# EAGLE library part LT1054 (library ruark2)
Charge Pump Switching Regulator IC Positive or Negative Adjustable (Fixed) 3.5V (-Vin, 2Vin) 1 Output 100mA 16-SOIC (0.295", 7.50mm Width)
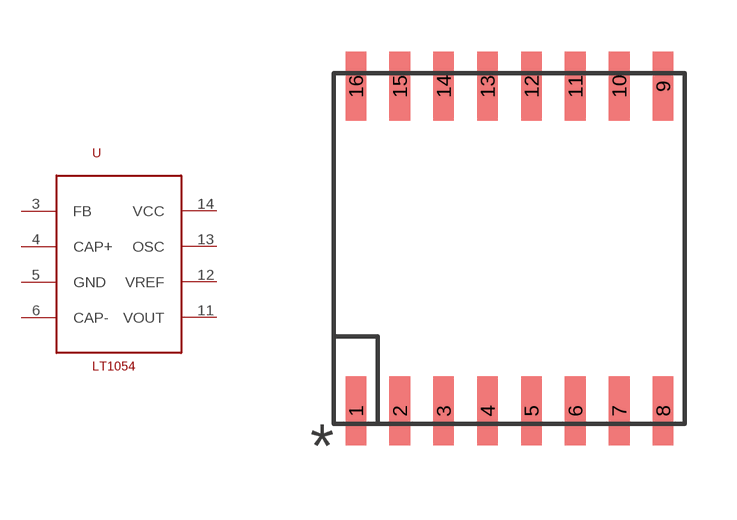
[diagram p10: symbol with the pads of SOP16; footprint SOP16]

Designator prefix U

## LT1054 (PARTNO: 296-17595-1-ND)  [SOP16]
3  FB
4  CAP+
5  GND
6  CAP-
11  VOUT
12  VREF
13  OSC
14  VCC

## Footprint SOP16 (pad centres in mm)
smd 0.6 x 2: 1 -4.445,-4.7; 2 -3.175,-4.7; 3 -1.905,-4.7; 4 -0.635,-4.7; 5 0.635,-4.7; 6 1.905,-4.7; 7 3.175,-4.7; 8 4.445,-4.7; 9 4.445,4.7; 10 3.175,4.7; 11 1.905,4.7; 12 0.635,4.7; 13 -0.635,4.7; 14 -1.905,4.7; 15 -3.175,4.7; 16 -4.445,4.7